# EAGLE library part PLCC-44 (library PLCC-44)
PLCC 44 SOCKET Check availability <https://pricing.snapeda.com/parts/PLCC-44/American%20Hakko/view-part?ref=eda>
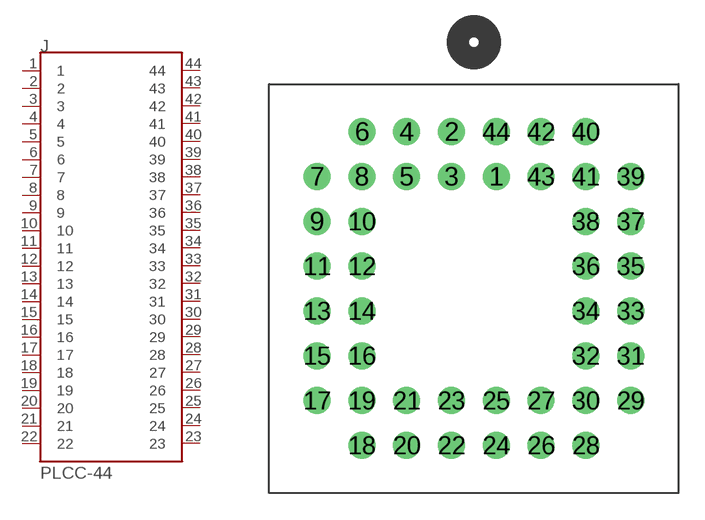
[diagram p0: symbol with the pads of FISCHER_ELEKTRONIK_PLCC-44; footprint FISCHER_ELEKTRONIK_PLCC-44]

Designator prefix J

## PLCC-44 (AVAILABILITY: In Stock; DESCRIPTION: Extraction Tool For PLCC Sockets; MF: American Hakko; MP: PLCC-44; PACKAGE: PLCC-44 Hakko; PRICE: None; PURCHASE-URL: https://pricing.snapeda.com/search/part/PLCC-44/?ref=eda)  [FISCHER_ELEKTRONIK_PLCC-44]
1  1  pas
2  2  pas
3  3  pas
4  4  pas
5  5  pas
6  6  pas
7  7  pas
8  8  pas
9  9  pas
10  10  pas
11  11  pas
12  12  pas
13  13  pas
14  14  pas
15  15  pas
16  16  pas
17  17  pas
18  18  pas
19  19  pas
20  20  pas
21  21  pas
22  22  pas
23  23  pas
24  24  pas
25  25  pas
26  26  pas
27  27  pas
28  28  pas
29  29  pas
30  30  pas
31  31  pas
32  32  pas
33  33  pas
34  34  pas
35  35  pas
36  36  pas
37  37  pas
38  38  pas
39  39  pas
40  40  pas
41  41  pas
42  42  pas
43  43  pas
44  44  pas

## Footprint FISCHER_ELEKTRONIK_PLCC-44 (pad centres in mm)
drill 1.02: 1 1.27,6.35; 2 -1.27,8.89; 3 -1.27,6.35; 4 -3.81,8.89; 5 -3.81,6.35; 6 -6.35,8.89; 7 -8.89,6.35; 8 -6.35,6.35; 9 -8.89,3.81; 10 -6.35,3.81; 11 -8.89,1.27; 12 -6.35,1.27; 13 -8.89,-1.27; 14 -6.35,-1.27; 15 -8.89,-3.81; 16 -6.35,-3.81; 17 -8.89,-6.35; 18 -6.35,-8.89; 19 -6.35,-6.35; 20 -3.81,-8.89; 21 -3.81,-6.35; 22 -1.27,-8.89; 23 -1.27,-6.35; 24 1.27,-8.89; 25 1.27,-6.35; 26 3.81,-8.89; 27 3.81,-6.35; 28 6.35,-8.89; 29 8.89,-6.35; 30 6.35,-6.35; 31 8.89,-3.81; 32 6.35,-3.81; 33 8.89,-1.27; 34 6.35,-1.27; 35 8.89,1.27; 36 6.35,1.27; 37 8.89,3.81; 38 6.35,3.81; 39 8.89,6.35; 40 6.35,8.89; 41 6.35,6.35; 42 3.81,8.89; 43 3.81,6.35; 44 1.27,8.89